# Altium footprint library ECG_Signals_V1.0_ZM_20211208.PcbLib: 23 footprints (part 1 of 2)
Each footprint in its own frame and in the unit in brackets; x right, y up, seen from the top. Pads: shape width x height; smd on the part's side, far side on the other; paste and mask are expansions set on the pad; w line width, h text height; cw(c..) or ccw(c..) is an arc to the next point about the centre after c.
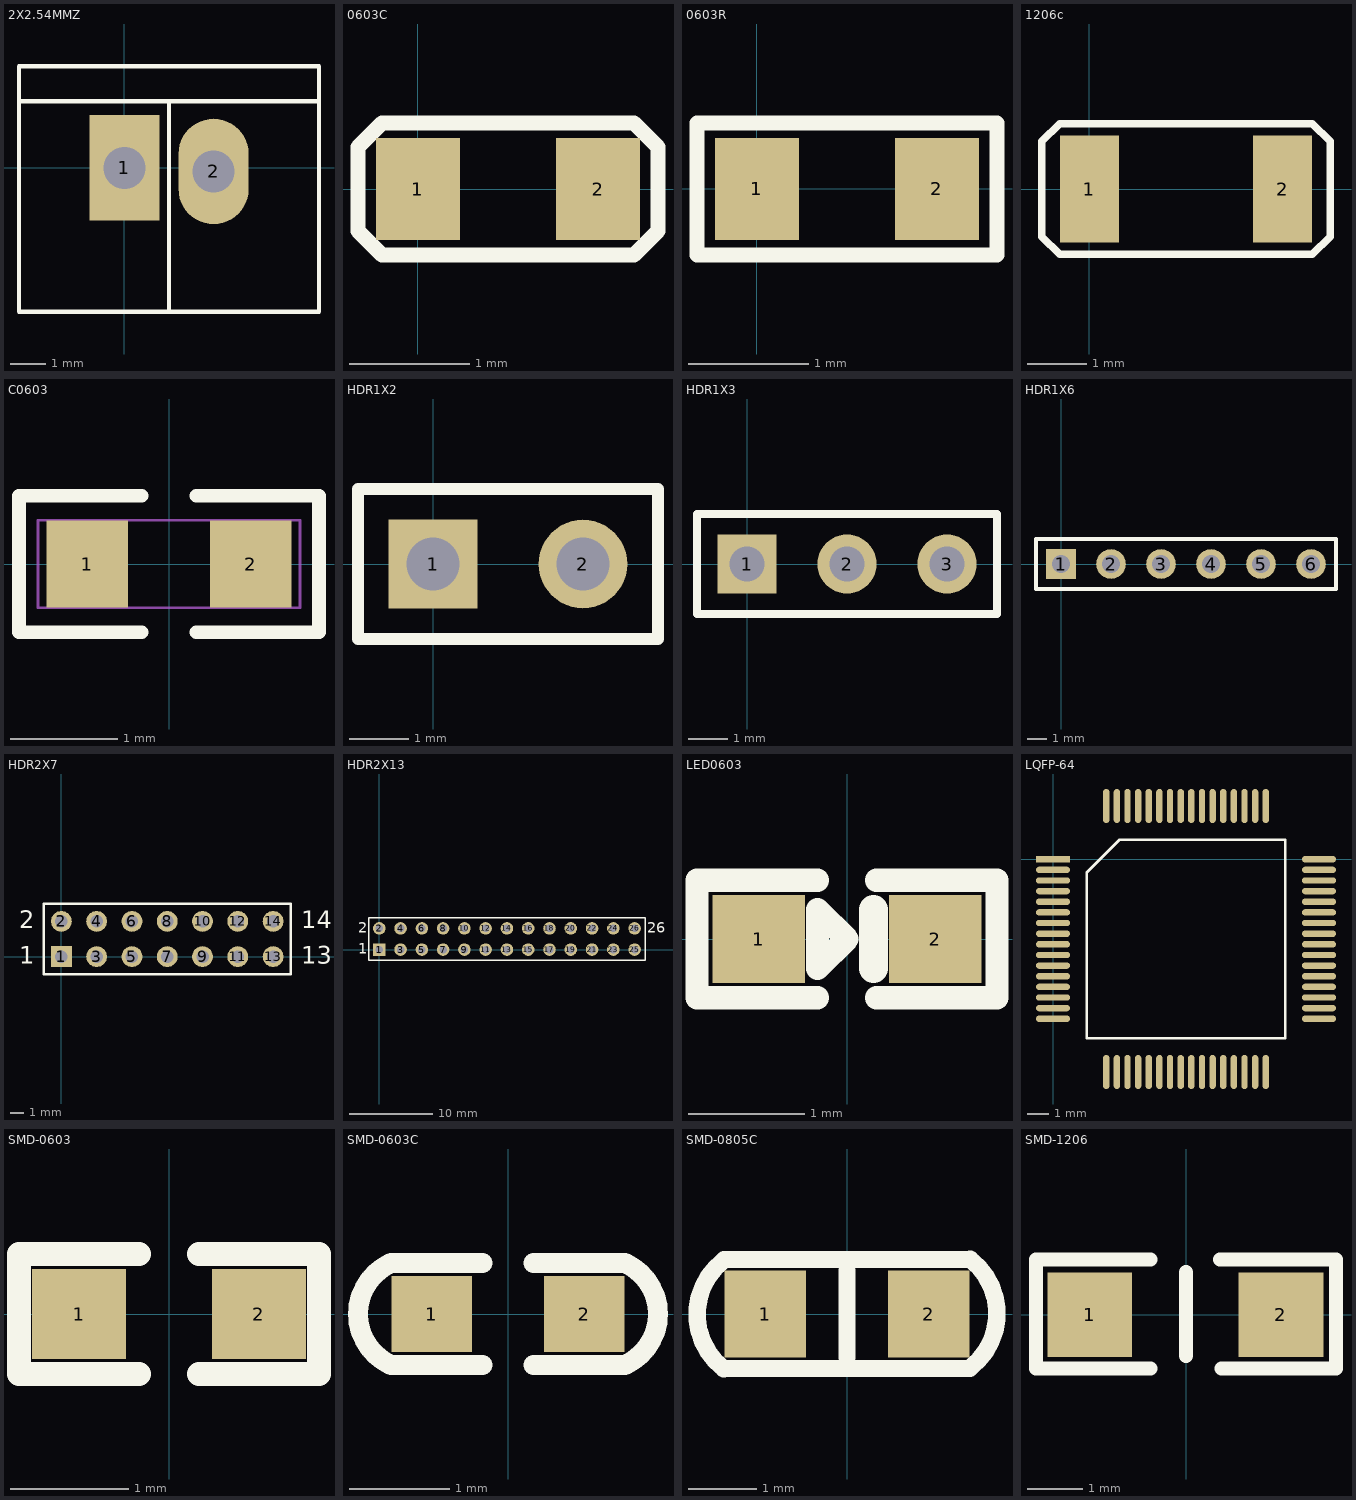
[diagram p0: the footprints below, top view; thin cyan lines are the x and y axes]

## 2X2.54MMZ [mm]
height 2.65
pads (2):
  rect 2x3 hole 1.2: 1(0,0)
  oval 2x3 hole 1.2: 2(2.54,-0.1)
Top Overlay:
  lines w0.127: -3,1.9 5.54,1.9 ; 1.27,-4.1 1.27,1.9 ; -3,-4.1 -3,2.9 5.54,2.9 5.54,-4.1 -3,-4.1

## 0603C [mm]
pads (2):
  rect 0.7x0.85 smd: 1(0,0) 2(1.5,0)
Top Overlay:
  lines w0.127: -0.5,-0.35 -0.3,-0.55 1.8,-0.55 2,-0.35 2,0.35 1.8,0.55 -0.3,0.55 -0.5,0.35 -0.5,-0.35

## 0603R [mm]
pads (2):
  rect 0.7x0.85 smd: 1(0,0) 2(1.5,0)
Top Overlay:
  lines w0.127: -0.5,-0.55 2,-0.55 2,0.55 -0.5,0.55 -0.5,-0.55

## 1206c [mm]
pads (2):
  rect 1x1.8 smd: 1(0,0) 2(3.25,0)
Top Overlay:
  lines w0.127: -0.8,-0.8 -0.5,-1.1 3.75,-1.1 4.05,-0.8 4.05,0.8 3.75,1.1 -0.5,1.1 -0.8,0.8 -0.8,-0.8

## C0603 [mil]
height 104.33
pads (2):
  rect 30x32 smd mask+2.5: 1(-30,0) 2(30,0)
Top Overlay:
  lines w5: -10,-25 -55,-25 -55,25 -10,25 ; 10,-25 55,-25 55,25 10,25
Mechanical 1:
  text "C9" at -40.35,-25 h50
Mechanical 16:
  lines w1: -48,-16 -48,16 48,16 48,-16 -48,-16

## HDR1X2 [mm] "Connector; Header; 2 Position"
height 2.65
pads (2):
  rect 1.5x1.5 hole 0.9: 1(0,0)
  round 1.5 hole 0.9: 2(2.54,0)
Top Overlay:
  lines w0.2: -1.27,-1.27 -1.27,1.27 3.81,1.27 3.81,-1.27 -1.27,-1.27

## HDR1X3 [mm] "Connector; Header; 3 Position"
height 2.65
pads (3):
  rect 1.5x1.5 hole 0.9: 1(0,0)
  round 1.5 hole 0.9: 2(2.54,0) 3(5.08,0)
Top Overlay:
  lines w0.2: -1.27,-1.27 -1.27,1.27 6.35,1.27 6.35,-1.27 -1.27,-1.27

## HDR1X6 [mm] "Connector; Header; 6 Position"
pads (6):
  rect 1.5x1.5 hole 0.9: 1(0,0)
  round 1.5 hole 0.9: 2(2.54,0) 3(5.08,0) 4(7.62,0) 5(10.16,0) 6(12.7,0)
Top Overlay:
  lines w0.2: -1.27,-1.27 13.97,-1.27 13.97,1.27 -1.27,1.27 -1.27,-1.27

## HDR2X7 [mm] "Connector; Header; 7x2 Position"
pads (14):
  rect 1.5x1.5 hole 0.9: 1(0,0)
  round 1.5 hole 0.9: 2(0,2.54) 3(2.54,0) 4(2.54,2.54) 5(5.08,0) 6(5.08,2.54) 7(7.62,0) 8(7.62,2.54) 9(10.16,0) 10(10.16,2.54) 11(12.7,0) 12(12.7,2.54) 13(15.24,0) 14(15.24,2.54)
Top Overlay:
  lines w0.2: -1.27,-1.27 -1.27,3.81 16.51,3.81 16.51,-1.27 -1.27,-1.27
  text "2" at -3.048,2.032 h1.27
  text "1" at -3.048,-0.508 h1.27
  text "14" at 17.272,2.032 h1.27
  text "13" at 17.272,-0.508 h1.27

## HDR2X13 [mm] "Connector; Header; 13x2 Position"
pads (26):
  rect 1.5x1.5 hole 0.9: 1(0,0)
  round 1.5 hole 0.9: 2(0,2.54) 3(2.54,0) 4(2.54,2.54) 5(5.08,0) 6(5.08,2.54) 7(7.62,0) 8(7.62,2.54) 9(10.16,0) 10(10.16,2.54) 11(12.7,0) 12(12.7,2.54) 13(15.24,0) 14(15.24,2.54) 15(17.78,0) 16(17.78,2.54) 17(20.32,0) 18(20.32,2.54) 19(22.86,0) 20(22.86,2.54) 21(25.4,0) 22(25.4,2.54) 23(27.94,0) 24(27.94,2.54) 25(30.48,0) 26(30.48,2.54)
Top Overlay:
  lines w0.2: -1.27,-1.27 -1.27,3.81 31.75,3.81 31.75,-1.27 -1.27,-1.27
  text "2" at -2.54,2.032 h1.27
  text "1" at -2.54,-0.508 h1.27
  text "26" at 32.004,2.032 h1.27

## LED0603 [mil]
height 104.33
pads (2):
  rect 31.5x30 smd: 1(-30,0) 2(30,0)
Top Overlay:
  lines w7.87: -51,-20 -51,20 ; -50,-20 -10,-20 ; -50,20 -10,20 ; 10,-20 50,-20 ; 10,20 50,20 ; 51,-20 51,20 ; -10,-10 -10,10 0,0 -10,-10
  lines w10: 9,-10 9,10
3D body: height 23.62, standoff 0, extent -31.49,-15.74 31.5,15.75

## LQFP-64 [mm]
height 2.65
pads (64):
  rect 1.6x0.3 smd: 1(0,0)
  oval 1.6x0.3 smd: 2(0,-0.5) 3(0,-1) 4(0,-1.5) 5(0,-2) 6(0,-2.5) 7(0,-3) 8(0,-3.5) 9(0,-4) 10(0,-4.5) 11(0,-5) 12(0,-5.5) 13(0,-6) 14(0,-6.5) 15(0,-7) 16(0,-7.5) 33(12.5,-7.5) 34(12.5,-7) 35(12.5,-6.5) 36(12.5,-6) 37(12.5,-5.5) 38(12.5,-5) 39(12.5,-4.5) 40(12.5,-4) 41(12.5,-3.5) 42(12.5,-3) 43(12.5,-2.5) 44(12.5,-2) 45(12.5,-1.5) 46(12.5,-1) 47(12.5,-0.5) 48(12.5,0)
  oval 0.3x1.6 smd: 17(2.5,-10) 18(3,-10) 19(3.5,-10) 20(4,-10) 21(4.5,-10) 22(5,-10) 23(5.5,-10) 24(6,-10) 25(6.5,-10) 26(7,-10) 27(7.5,-10) 28(8,-10) 29(8.5,-10) 30(9,-10) 31(9.5,-10) 32(10,-10) 49(10,2.5) 50(9.5,2.5) 51(9,2.5) 52(8.5,2.5) 53(8,2.5) 54(7.5,2.5) 55(7,2.5) 56(6.5,2.5) 57(6,2.5) 58(5.5,2.5) 59(5,2.5) 60(4.5,2.5) 61(4,2.5) 62(3.5,2.5) 63(3,2.5) 64(2.5,2.5)
Top Overlay:
  lines w0.127: 1.585,-8.415 1.585,-0.62 3.12,0.915 10.915,0.915 10.915,-8.415 1.585,-8.415

## SMD-0603 [mil]
height 104.33
pads (2):
  rect 31.5x30 smd: 1(-30,0) 2(30,0)
Top Overlay:
  lines w7.87: -10,-20 -50,-20 -50,20 -10,20 ; 10,-20 50,-20 50,20 10,20
3D body: height 17.72, standoff 0, extent -31.49,-15.74 31.5,15.75

## SMD-0603C [mil]
height 104.33
pads (2):
  rect 31.5x30 smd: 1(-30,0) 2(30,0)
Top Overlay:
  lines w7.87: -46.3,-19.94 cw(c-37,0) -46.3,19.94 ; -46,-20 -10,-20 ; -46,20 -10,20 ; 10,-20 46,-20 ; 10,20 46,20 ; 46.3,-19.94 ccw(c37,0) 46.3,19.94
3D body: height 31.5, standoff 0, extent -32.27,-15.75 32.27,15.75

## SMD-0805C [mm]
height 2.65
pads (2):
  rect 1.2x1.27 smd: 1(-1.2,0) 2(1.2,0)
Top Overlay:
  lines w0.254: -1.808,-0.801 cw(c-1.2,-0.007) -1.801,0.792 ; -1.8,-0.8 1.8,-0.8 ; -1.8,0.8 1.8,0.8 ; 0,-0.635 0,0.635 ; 1.801,-0.792 ccw(c1.2,0.007) 1.808,0.801
3D body: height 0.93, standoff -0.01, extent -1.425,-0.667 1.575,0.733

## SMD-1206 [mil]
height 104.33
pads (2):
  rect 60x60 smd: 1(-68,0) 2(67,0)
Top Overlay:
  lines w10: -106,-38 -25,-38 ; -105.98,-36 -105.98,38 ; -106,39 -25,39 ; 0,-29 0,30 ; 24,39 105.98,39 ; 25,-38 106,-38 ; 106,-36 106,38
3D body: height 23.62, standoff 0, extent -62.99,-31.49 62.99,31.5